# Altium schematic symbol library TCR5RG33A,LF.SchLib: 1 symbol
Pins are listed as number, name and electrical type; pins without a type are passive.

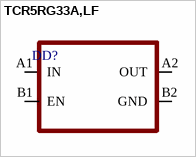
[diagram p0: symbol TCR5RG33A,LF]

## TCR5RG33A,LF
designator DD?
pins: A1 IN, A2 OUT, B1 EN, B2 GND